# EAGLE library part AG9XX0 (library wiznet_5100)
PoE module
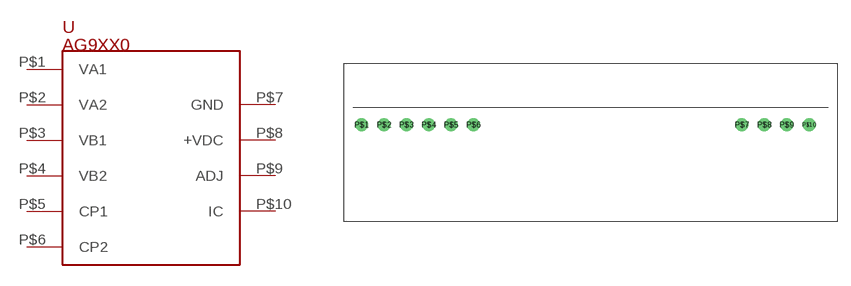
[diagram p0: symbol with the pads of AG9000; footprint AG9000]

Designator prefix -

## AG9XX0  [AG9000]
P$1  VA1  in
P$2  VA2  in
P$3  VB1  in
P$4  VB2  in
P$5  CP1  in
P$6  CP2  in
P$7  GND  pwr
P$8  +VDC  pwr
P$9  ADJ  pas
P$10  IC  nc

## Footprint AG9000 (pad centres in mm)
AG9000 PoE modules
drill 0.95 pad 1.422: P$1 0,0; P$2 2.54,0; P$3 5.08,0; P$4 7.62,0; P$5 10.16,0; P$6 12.7,0; P$7 43.18,0; P$8 45.72,0; P$9 48.26,0; P$10 50.8,0